# EAGLE library part DX07S024WJ1 (library USBC_LSD)
DX07S024WJ1 - Conector USB-C Hembra para PCB Technical Specifications: Montura superficial 90° (vertical) Digikey: DX07S024WJ1 <https://www.digikey.com/product-detail/en/jae-electronics/DX07S024WJ1R350/670-2949-1-ND/6594045> Datasheet <http://www.jae.com/z-en/pdf_download_exec.cfm?param=MB-0297-3E_0301-2E_DX07.pdf> Drawing <http://www.jae.com/z-en/pdf_download_exec.cfm?param=SJ117219.pdf>
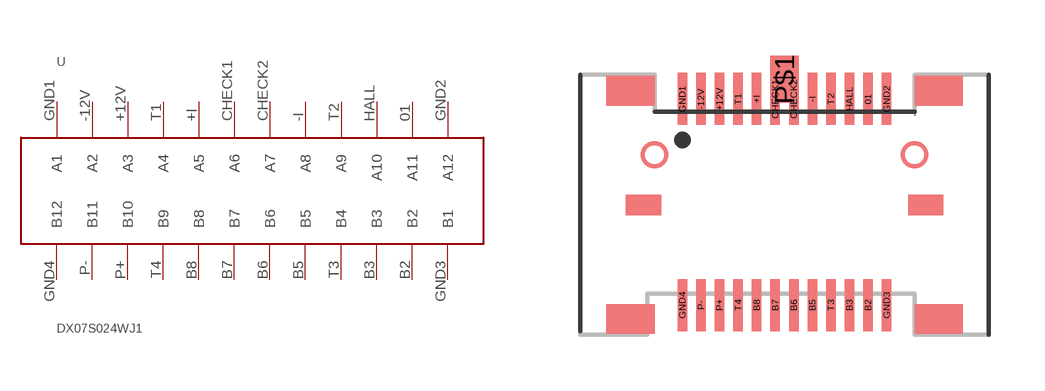
[diagram p0: symbol with the pads of DX07S024WJ1; footprint DX07S024WJ1]

Designator prefix -

## DX07S024WJ1  [DX07S024WJ1]
01  A11
+12V  A3
+I  A5
-12V  A2
-I  A8
B2  B2
B3  B3
B5  B5
B6  B6
B7  B7
B8  B8
CHECK1  A6
CHECK2  A7
GND1  A1
GND2  A12
GND3  B1
GND4  B12
HALL  A10
P+  B10
P-  B11
T1  A4
T2  A9
T3  B4
T4  B9

## Footprint DX07S024WJ1 (pad centres in mm)
smd 0.254 x 1.4: 01 2.25,2.85; +12V -1.75,2.85; +I -0.75,2.85; -12V -2.25,2.85; -I 0.75,2.85; B2 2.25,-2.7; B3 1.75,-2.7; B5 0.75,-2.7; B6 0.25,-2.7; B7 -0.25,-2.7; B8 -0.75,-2.7; CHECK1 -0.25,2.85; CHECK2 0.25,2.85; GND1 -2.75,2.85; GND2 2.75,2.85; GND3 2.75,-2.7; GND4 -2.75,-2.7; HALL 1.75,2.85; P+ -1.75,-2.7; P- -2.25,-2.7; T1 -1.25,2.85; T2 1.25,2.85; T3 1.25,-2.7; T4 -1.25,-2.7
smd 0.762 x 1.27: P$1 0,3.38